# Altium schematic symbol library power_transistor.SchLib: 4 symbols
Pins are listed as number, name and electrical type; pins without a type are passive.

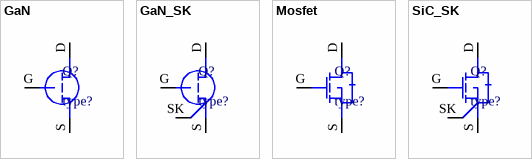
[diagram p0: symbols GaN to SiC_SK]

## GaN
designator Q?, comment type?
footprint En-FCLGA9
pins: D, G, S

## GaN_SK
designator Q?, comment type?
pins: D, G, S, SK

## Mosfet
designator Q?, comment type?
pins: D, G, S

## SiC_SK
designator Q?, comment type?
pins: D, G, S, SK